# Altium schematic symbol library kmilo17pet-NSC_Switcher.SchLib: 2226 symbols (part 46 of 59)
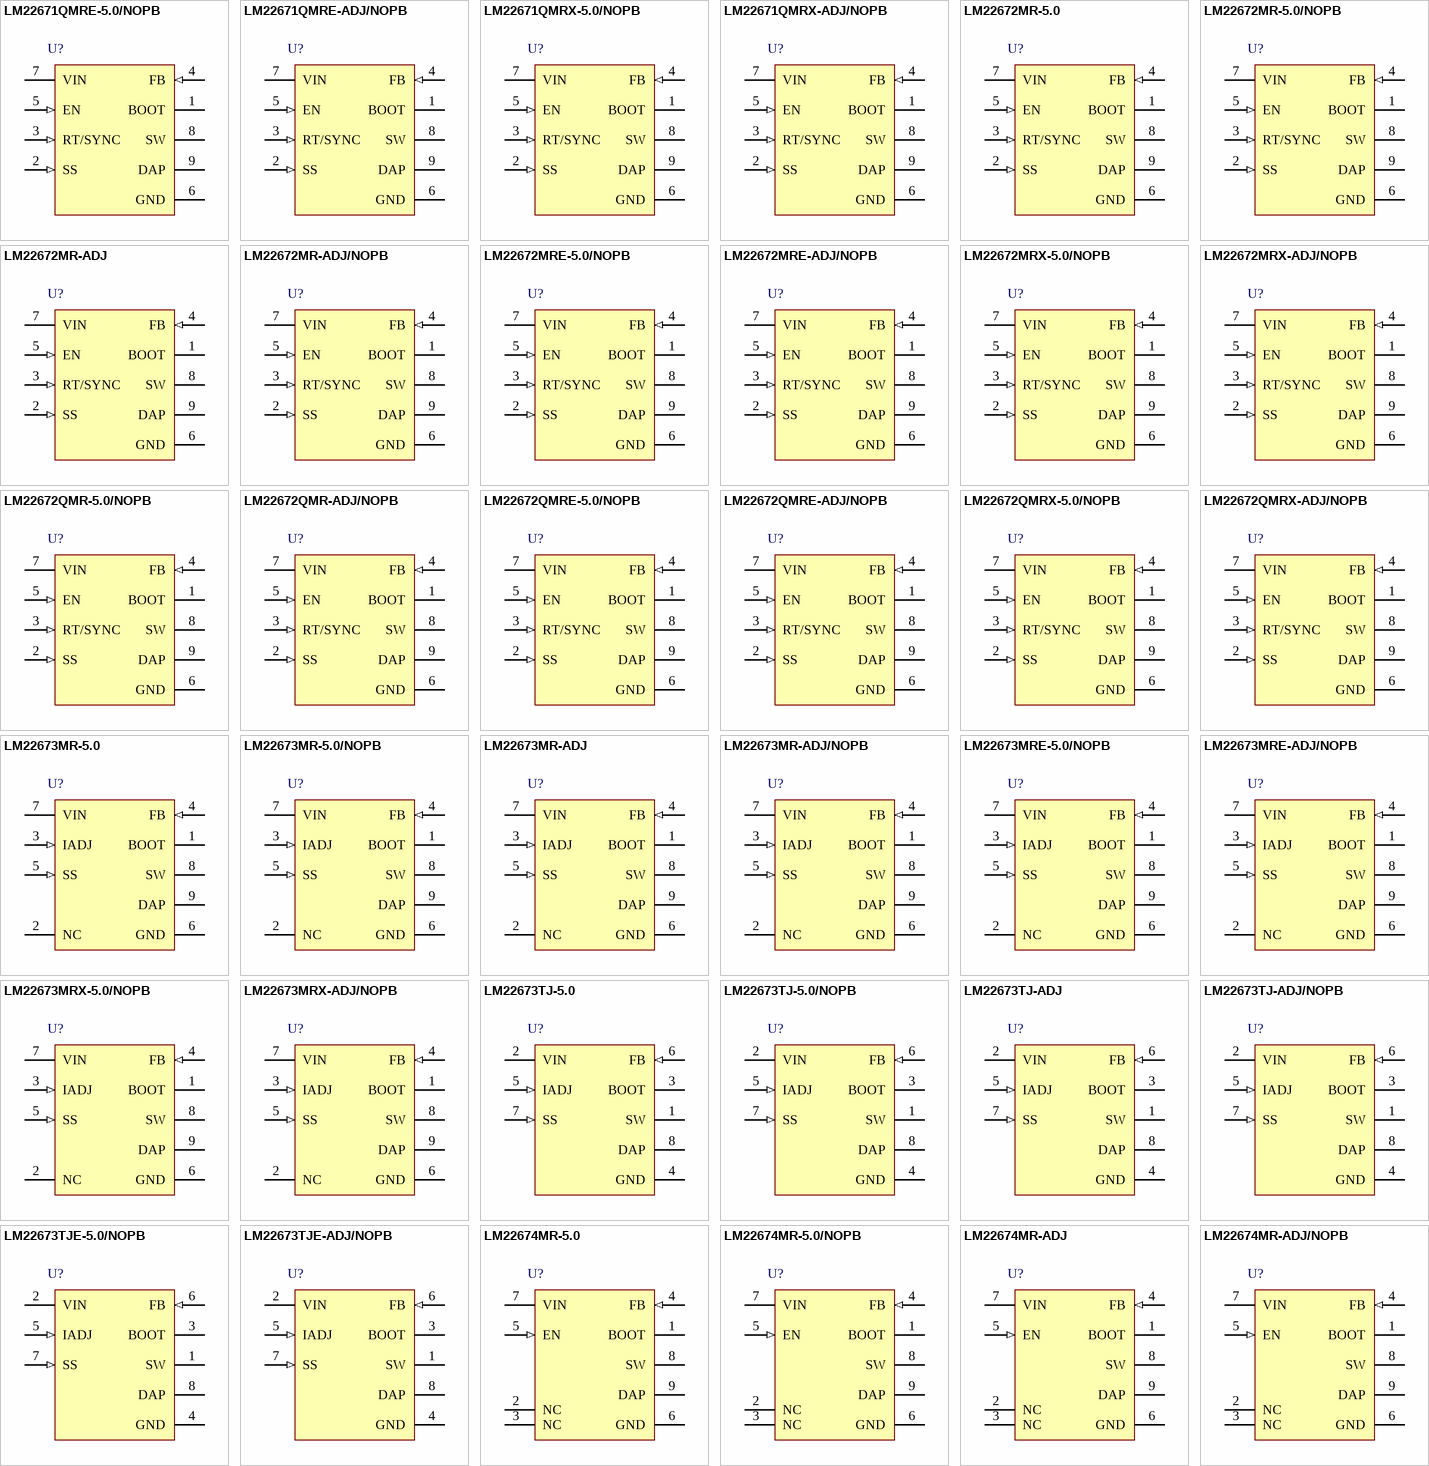
[diagram p114: symbols LM22671QMRE-5.0/NOPB to LM22674MR-ADJ/NOPB]

## LM22671QMRE-ADJ/NOPB
designator U?
500 mA SIMPLE SWITCHER®, Step-Down Voltage Regulator with Features, Adjustable Output, Automotive Grade 1, 8-pin PSOP, 250 Reel; PartNumber: LM22671QMRE-ADJ/NOPB; Manufacturer: National Semiconductor; PackageTopMarking: NSXYTT*L22671*QADJ; PowerWise: N; High-Reliability: Y; DatasheetVersion: Jan-2011; PackageVersion: revB, Dec-2007; PackageReference: MRA08B; PackageDescription: Molded, PSOP .193 x .154 x .058in, 8 Lead, .050in Pitch, Large DAP; RoHS: Y; PinCount: 8; CompType: Switcher; Code_JEDEC: MS-012-AA; ComponentLink1Description: Manufacturer URL; ComponentLink1URL: http://www.national.com/; ComponentLink2Description: LM22671 Datasheet; ComponentLink2URL: http://www.national.com/ds/LM/LM22671.pdf; ComponentLink3Description: LM22671 Web Page; ComponentLink3URL: http://www.national.com/pf/LM/LM22671.html; ComponentLink4Description: MRA08B Package Page; ComponentLink4URL: http://www.national.com/packaging/folders/mra08b.html
footprint MRA08B_N (SOIC, 8-Leads, Body 4.9x3.9mm, Pitch 1.27mm, Thermal Pad, IPC Medium Density)
footprint MRA08B_L (SOIC, 8-Leads, Body 4.9x3.9mm, Pitch 1.27mm, Thermal Pad, IPC High Density)
footprint MRA08B_M (SOIC, 8-Leads, Body 4.9x3.9mm, Pitch 1.27mm, Thermal Pad, IPC Low Density)
pins: 1 BOOT, 2 SS (in), 3 RT/SYNC (in), 4 FB (in), 5 EN (in), 6 GND (power), 7 VIN (power), 8 SW (power), 9 DAP (power)

## LM22671QMRX-5.0/NOPB
designator U?
500 mA SIMPLE SWITCHER®, Step-Down Voltage Regulator with Features, 5V Output, Automotive Grade 1, 8-pin PSOP, 2500 Reel; PartNumber: LM22671QMRX-5.0/NOPB; Manufacturer: National Semiconductor; PackageTopMarking: NSXYTT*L22671*Q5.0; PowerWise: N; High-Reliability: Y; DatasheetVersion: Jan-2011; PackageVersion: revB, Dec-2007; PackageReference: MRA08B; PackageDescription: Molded, PSOP .193 x .154 x .058in, 8 Lead, .050in Pitch, Large DAP; RoHS: Y; PinCount: 8; CompType: Switcher; Code_JEDEC: MS-012-AA; ComponentLink1Description: Manufacturer URL; ComponentLink1URL: http://www.national.com/; ComponentLink2Description: LM22671 Datasheet; ComponentLink2URL: http://www.national.com/ds/LM/LM22671.pdf; ComponentLink3Description: LM22671 Web Page; ComponentLink3URL: http://www.national.com/pf/LM/LM22671.html; ComponentLink4Description: MRA08B Package Page; ComponentLink4URL: http://www.national.com/packaging/folders/mra08b.html
footprint MRA08B_N (SOIC, 8-Leads, Body 4.9x3.9mm, Pitch 1.27mm, Thermal Pad, IPC Medium Density)
footprint MRA08B_L (SOIC, 8-Leads, Body 4.9x3.9mm, Pitch 1.27mm, Thermal Pad, IPC High Density)
footprint MRA08B_M (SOIC, 8-Leads, Body 4.9x3.9mm, Pitch 1.27mm, Thermal Pad, IPC Low Density)
pins: 1 BOOT, 2 SS (in), 3 RT/SYNC (in), 4 FB (in), 5 EN (in), 6 GND (power), 7 VIN (power), 8 SW (power), 9 DAP (power)

## LM22671QMRX-ADJ/NOPB
designator U?
500 mA SIMPLE SWITCHER®, Step-Down Voltage Regulator with Features, Adjustable Output, Automotive Grade 1, 8-pin PSOP, 2500 Reel; PartNumber: LM22671QMRX-ADJ/NOPB; Manufacturer: National Semiconductor; PackageTopMarking: NSXYTT*L22671*QADJ; PowerWise: N; High-Reliability: Y; DatasheetVersion: Jan-2011; PackageVersion: revB, Dec-2007; PackageReference: MRA08B; PackageDescription: Molded, PSOP .193 x .154 x .058in, 8 Lead, .050in Pitch, Large DAP; RoHS: Y; PinCount: 8; CompType: Switcher; Code_JEDEC: MS-012-AA; ComponentLink1Description: Manufacturer URL; ComponentLink1URL: http://www.national.com/; ComponentLink2Description: LM22671 Datasheet; ComponentLink2URL: http://www.national.com/ds/LM/LM22671.pdf; ComponentLink3Description: LM22671 Web Page; ComponentLink3URL: http://www.national.com/pf/LM/LM22671.html; ComponentLink4Description: MRA08B Package Page; ComponentLink4URL: http://www.national.com/packaging/folders/mra08b.html
footprint MRA08B_N (SOIC, 8-Leads, Body 4.9x3.9mm, Pitch 1.27mm, Thermal Pad, IPC Medium Density)
footprint MRA08B_L (SOIC, 8-Leads, Body 4.9x3.9mm, Pitch 1.27mm, Thermal Pad, IPC High Density)
footprint MRA08B_M (SOIC, 8-Leads, Body 4.9x3.9mm, Pitch 1.27mm, Thermal Pad, IPC Low Density)
pins: 1 BOOT, 2 SS (in), 3 RT/SYNC (in), 4 FB (in), 5 EN (in), 6 GND (power), 7 VIN (power), 8 SW (power), 9 DAP (power)

## LM22672MR-5.0
designator U?
1A SIMPLE SWITCHER® Step-Down Voltage Regulator with Features, 8-pin PSOP; PartNumber: LM22672MR-5.0; Manufacturer: National Semiconductor; PackageTopMarking: NSXYTT*L22672*5.0; PowerWise: N; High-Reliability: Y; DatasheetVersion: Jan-2011; PackageVersion: revB, Dec-2007; PackageReference: MRA08B; PackageDescription: Molded, PSOP .193 x .154 x .058in, 8 Lead, .050in Pitch, Large DAP; RoHS: Y; PinCount: 8; CompType: Switcher; Code_JEDEC: MS-012-AA; ComponentLink1Description: Manufacturer URL; ComponentLink1URL: http://www.national.com/; ComponentLink2Description: LM22672 Datasheet; ComponentLink2URL: http://www.national.com/ds/LM/LM22672.pdf; ComponentLink3Description: LM22672 Web Page; ComponentLink3URL: http://www.national.com/pf/LM/LM22672.html; ComponentLink4Description: MRA08B Package Page; ComponentLink4URL: http://www.national.com/packaging/folders/mra08b.html
footprint MRA08B_N (SOIC, 8-Leads, Body 4.9x3.9mm, Pitch 1.27mm, Thermal Pad, IPC Medium Density)
footprint MRA08B_L (SOIC, 8-Leads, Body 4.9x3.9mm, Pitch 1.27mm, Thermal Pad, IPC High Density)
footprint MRA08B_M (SOIC, 8-Leads, Body 4.9x3.9mm, Pitch 1.27mm, Thermal Pad, IPC Low Density)
pins: 1 BOOT, 2 SS (in), 3 RT/SYNC (in), 4 FB (in), 5 EN (in), 6 GND (power), 7 VIN (power), 8 SW (power), 9 DAP (power)

## LM22672MR-5.0/NOPB
designator U?
1A SIMPLE SWITCHER®, Step-Down Voltage Regulator with Features, 8-pin PSOP, Pb-Free; PartNumber: LM22672MR-5.0/NOPB; Manufacturer: National Semiconductor; PackageTopMarking: NSXYTT*L22672*5.0; PowerWise: N; High-Reliability: Y; DatasheetVersion: Jan-2011; PackageVersion: revB, Dec-2007; PackageReference: MRA08B; PackageDescription: Molded, PSOP .193 x .154 x .058in, 8 Lead, .050in Pitch, Large DAP; RoHS: Y; PinCount: 8; CompType: Switcher; Code_JEDEC: MS-012-AA; ComponentLink1Description: Manufacturer URL; ComponentLink1URL: http://www.national.com/; ComponentLink2Description: LM22672 Datasheet; ComponentLink2URL: http://www.national.com/ds/LM/LM22672.pdf; ComponentLink3Description: LM22672 Web Page; ComponentLink3URL: http://www.national.com/pf/LM/LM22672.html; ComponentLink4Description: MRA08B Package Page; ComponentLink4URL: http://www.national.com/packaging/folders/mra08b.html
footprint MRA08B_N (SOIC, 8-Leads, Body 4.9x3.9mm, Pitch 1.27mm, Thermal Pad, IPC Medium Density)
footprint MRA08B_L (SOIC, 8-Leads, Body 4.9x3.9mm, Pitch 1.27mm, Thermal Pad, IPC High Density)
footprint MRA08B_M (SOIC, 8-Leads, Body 4.9x3.9mm, Pitch 1.27mm, Thermal Pad, IPC Low Density)
pins: 1 BOOT, 2 SS (in), 3 RT/SYNC (in), 4 FB (in), 5 EN (in), 6 GND (power), 7 VIN (power), 8 SW (power), 9 DAP (power)

## LM22672MR-ADJ
designator U?
1A SIMPLE SWITCHER® Step-Down Voltage Regulator with Features, 8-pin PSOP; PartNumber: LM22672MR-ADJ; Manufacturer: National Semiconductor; PackageTopMarking: NSXYTT*L22672*ADJ; PowerWise: N; High-Reliability: Y; DatasheetVersion: Jan-2011; PackageVersion: revB, Dec-2007; PackageReference: MRA08B; PackageDescription: Molded, PSOP .193 x .154 x .058in, 8 Lead, .050in Pitch, Large DAP; RoHS: Y; PinCount: 8; CompType: Switcher; Code_JEDEC: MS-012-AA; ComponentLink1Description: Manufacturer URL; ComponentLink1URL: http://www.national.com/; ComponentLink2Description: LM22672 Datasheet; ComponentLink2URL: http://www.national.com/ds/LM/LM22672.pdf; ComponentLink3Description: LM22672 Web Page; ComponentLink3URL: http://www.national.com/pf/LM/LM22672.html; ComponentLink4Description: MRA08B Package Page; ComponentLink4URL: http://www.national.com/packaging/folders/mra08b.html
footprint MRA08B_N (SOIC, 8-Leads, Body 4.9x3.9mm, Pitch 1.27mm, Thermal Pad, IPC Medium Density)
footprint MRA08B_L (SOIC, 8-Leads, Body 4.9x3.9mm, Pitch 1.27mm, Thermal Pad, IPC High Density)
footprint MRA08B_M (SOIC, 8-Leads, Body 4.9x3.9mm, Pitch 1.27mm, Thermal Pad, IPC Low Density)
pins: 1 BOOT, 2 SS (in), 3 RT/SYNC (in), 4 FB (in), 5 EN (in), 6 GND (power), 7 VIN (power), 8 SW (power), 9 DAP (power)

## LM22672MR-ADJ/NOPB
designator U?
1A SIMPLE SWITCHER®, Step-Down Voltage Regulator with Features, 8-pin PSOP, Pb-Free; PartNumber: LM22672MR-ADJ/NOPB; Manufacturer: National Semiconductor; PackageTopMarking: NSXYTT*L22672*ADJ; PowerWise: N; High-Reliability: Y; DatasheetVersion: Jan-2011; PackageVersion: revB, Dec-2007; PackageReference: MRA08B; PackageDescription: Molded, PSOP .193 x .154 x .058in, 8 Lead, .050in Pitch, Large DAP; RoHS: Y; PinCount: 8; CompType: Switcher; Code_JEDEC: MS-012-AA; ComponentLink1Description: Manufacturer URL; ComponentLink1URL: http://www.national.com/; ComponentLink2Description: LM22672 Datasheet; ComponentLink2URL: http://www.national.com/ds/LM/LM22672.pdf; ComponentLink3Description: LM22672 Web Page; ComponentLink3URL: http://www.national.com/pf/LM/LM22672.html; ComponentLink4Description: MRA08B Package Page; ComponentLink4URL: http://www.national.com/packaging/folders/mra08b.html
footprint MRA08B_N (SOIC, 8-Leads, Body 4.9x3.9mm, Pitch 1.27mm, Thermal Pad, IPC Medium Density)
footprint MRA08B_L (SOIC, 8-Leads, Body 4.9x3.9mm, Pitch 1.27mm, Thermal Pad, IPC High Density)
footprint MRA08B_M (SOIC, 8-Leads, Body 4.9x3.9mm, Pitch 1.27mm, Thermal Pad, IPC Low Density)
pins: 1 BOOT, 2 SS (in), 3 RT/SYNC (in), 4 FB (in), 5 EN (in), 6 GND (power), 7 VIN (power), 8 SW (power), 9 DAP (power)

## LM22672MRE-5.0/NOPB
designator U?
1A SIMPLE SWITCHER®, Step-Down Voltage Regulator with Features, 8-pin PSOP, Pb-Free; PartNumber: LM22672MRE-5.0/NOPB; Manufacturer: National Semiconductor; PackageTopMarking: NSXYTT*L22672*5.0; PowerWise: N; High-Reliability: Y; DatasheetVersion: Jan-2011; PackageVersion: revB, Dec-2007; PackageReference: MRA08B; PackageDescription: Molded, PSOP .193 x .154 x .058in, 8 Lead, .050in Pitch, Large DAP; RoHS: Y; PinCount: 8; CompType: Switcher; Code_JEDEC: MS-012-AA; ComponentLink1Description: Manufacturer URL; ComponentLink1URL: http://www.national.com/; ComponentLink2Description: LM22672 Datasheet; ComponentLink2URL: http://www.national.com/ds/LM/LM22672.pdf; ComponentLink3Description: LM22672 Web Page; ComponentLink3URL: http://www.national.com/pf/LM/LM22672.html; ComponentLink4Description: MRA08B Package Page; ComponentLink4URL: http://www.national.com/packaging/folders/mra08b.html
footprint MRA08B_N (SOIC, 8-Leads, Body 4.9x3.9mm, Pitch 1.27mm, Thermal Pad, IPC Medium Density)
footprint MRA08B_L (SOIC, 8-Leads, Body 4.9x3.9mm, Pitch 1.27mm, Thermal Pad, IPC High Density)
footprint MRA08B_M (SOIC, 8-Leads, Body 4.9x3.9mm, Pitch 1.27mm, Thermal Pad, IPC Low Density)
pins: 1 BOOT, 2 SS (in), 3 RT/SYNC (in), 4 FB (in), 5 EN (in), 6 GND (power), 7 VIN (power), 8 SW (power), 9 DAP (power)

## LM22672MRE-ADJ/NOPB
designator U?
1A SIMPLE SWITCHER®, Step-Down Voltage Regulator with Features, 8-pin PSOP, Pb-Free; PartNumber: LM22672MRE-ADJ/NOPB; Manufacturer: National Semiconductor; PackageTopMarking: NSXYTT*L22672*ADJ; PowerWise: N; High-Reliability: Y; DatasheetVersion: Jan-2011; PackageVersion: revB, Dec-2007; PackageReference: MRA08B; PackageDescription: Molded, PSOP .193 x .154 x .058in, 8 Lead, .050in Pitch, Large DAP; RoHS: Y; PinCount: 8; CompType: Switcher; Code_JEDEC: MS-012-AA; ComponentLink1Description: Manufacturer URL; ComponentLink1URL: http://www.national.com/; ComponentLink2Description: LM22672 Datasheet; ComponentLink2URL: http://www.national.com/ds/LM/LM22672.pdf; ComponentLink3Description: LM22672 Web Page; ComponentLink3URL: http://www.national.com/pf/LM/LM22672.html; ComponentLink4Description: MRA08B Package Page; ComponentLink4URL: http://www.national.com/packaging/folders/mra08b.html
footprint MRA08B_N (SOIC, 8-Leads, Body 4.9x3.9mm, Pitch 1.27mm, Thermal Pad, IPC Medium Density)
footprint MRA08B_L (SOIC, 8-Leads, Body 4.9x3.9mm, Pitch 1.27mm, Thermal Pad, IPC High Density)
footprint MRA08B_M (SOIC, 8-Leads, Body 4.9x3.9mm, Pitch 1.27mm, Thermal Pad, IPC Low Density)
pins: 1 BOOT, 2 SS (in), 3 RT/SYNC (in), 4 FB (in), 5 EN (in), 6 GND (power), 7 VIN (power), 8 SW (power), 9 DAP (power)

## LM22672MRX-5.0/NOPB
designator U?
1A SIMPLE SWITCHER®, Step-Down Voltage Regulator with Features, 8-pin PSOP, Pb-Free; PartNumber: LM22672MRX-5.0/NOPB; Manufacturer: National Semiconductor; PackageTopMarking: NSXYTT*L22672*5.0; PowerWise: N; High-Reliability: Y; DatasheetVersion: Jan-2011; PackageVersion: revB, Dec-2007; PackageReference: MRA08B; PackageDescription: Molded, PSOP .193 x .154 x .058in, 8 Lead, .050in Pitch, Large DAP; RoHS: Y; PinCount: 8; CompType: Switcher; Code_JEDEC: MS-012-AA; ComponentLink1Description: Manufacturer URL; ComponentLink1URL: http://www.national.com/; ComponentLink2Description: LM22672 Datasheet; ComponentLink2URL: http://www.national.com/ds/LM/LM22672.pdf; ComponentLink3Description: LM22672 Web Page; ComponentLink3URL: http://www.national.com/pf/LM/LM22672.html; ComponentLink4Description: MRA08B Package Page; ComponentLink4URL: http://www.national.com/packaging/folders/mra08b.html
footprint MRA08B_N (SOIC, 8-Leads, Body 4.9x3.9mm, Pitch 1.27mm, Thermal Pad, IPC Medium Density)
footprint MRA08B_L (SOIC, 8-Leads, Body 4.9x3.9mm, Pitch 1.27mm, Thermal Pad, IPC High Density)
footprint MRA08B_M (SOIC, 8-Leads, Body 4.9x3.9mm, Pitch 1.27mm, Thermal Pad, IPC Low Density)
pins: 1 BOOT, 2 SS (in), 3 RT/SYNC (in), 4 FB (in), 5 EN (in), 6 GND (power), 7 VIN (power), 8 SW (power), 9 DAP (power)

## LM22672MRX-ADJ/NOPB
designator U?
1A SIMPLE SWITCHER®, Step-Down Voltage Regulator with Features, 8-pin PSOP, Pb-Free; PartNumber: LM22672MRX-ADJ/NOPB; Manufacturer: National Semiconductor; PackageTopMarking: NSXYTT*L22672*ADJ; PowerWise: N; High-Reliability: Y; DatasheetVersion: Jan-2011; PackageVersion: revB, Dec-2007; PackageReference: MRA08B; PackageDescription: Molded, PSOP .193 x .154 x .058in, 8 Lead, .050in Pitch, Large DAP; RoHS: Y; PinCount: 8; CompType: Switcher; Code_JEDEC: MS-012-AA; ComponentLink1Description: Manufacturer URL; ComponentLink1URL: http://www.national.com/; ComponentLink2Description: LM22672 Datasheet; ComponentLink2URL: http://www.national.com/ds/LM/LM22672.pdf; ComponentLink3Description: LM22672 Web Page; ComponentLink3URL: http://www.national.com/pf/LM/LM22672.html; ComponentLink4Description: MRA08B Package Page; ComponentLink4URL: http://www.national.com/packaging/folders/mra08b.html
footprint MRA08B_N (SOIC, 8-Leads, Body 4.9x3.9mm, Pitch 1.27mm, Thermal Pad, IPC Medium Density)
footprint MRA08B_L (SOIC, 8-Leads, Body 4.9x3.9mm, Pitch 1.27mm, Thermal Pad, IPC High Density)
footprint MRA08B_M (SOIC, 8-Leads, Body 4.9x3.9mm, Pitch 1.27mm, Thermal Pad, IPC Low Density)
pins: 1 BOOT, 2 SS (in), 3 RT/SYNC (in), 4 FB (in), 5 EN (in), 6 GND (power), 7 VIN (power), 8 SW (power), 9 DAP (power)

## LM22672QMR-5.0/NOPB
designator U?
1A SIMPLE SWITCHER®, Step-Down Voltage Regulator with Features, 5V Output, Automotive Grade 1, 8-pin PSOP, 95 Rail; PartNumber: LM22672QMR-5.0/NOPB; Manufacturer: National Semiconductor; PackageTopMarking: NSXYTT*L22672*Q5.0; PowerWise: N; High-Reliability: Y; DatasheetVersion: Jan-2011; PackageVersion: revB, Dec-2007; PackageReference: MRA08B; PackageDescription: Molded, PSOP .193 x .154 x .058in, 8 Lead, .050in Pitch, Large DAP; RoHS: Y; PinCount: 8; CompType: Switcher; Code_JEDEC: MS-012-AA; ComponentLink1Description: Manufacturer URL; ComponentLink1URL: http://www.national.com/; ComponentLink2Description: LM22672 Datasheet; ComponentLink2URL: http://www.national.com/ds/LM/LM22672.pdf; ComponentLink3Description: LM22672 Web Page; ComponentLink3URL: http://www.national.com/pf/LM/LM22672.html; ComponentLink4Description: MRA08B Package Page; ComponentLink4URL: http://www.national.com/packaging/folders/mra08b.html
footprint MRA08B_N (SOIC, 8-Leads, Body 4.9x3.9mm, Pitch 1.27mm, Thermal Pad, IPC Medium Density)
footprint MRA08B_L (SOIC, 8-Leads, Body 4.9x3.9mm, Pitch 1.27mm, Thermal Pad, IPC High Density)
footprint MRA08B_M (SOIC, 8-Leads, Body 4.9x3.9mm, Pitch 1.27mm, Thermal Pad, IPC Low Density)
pins: 1 BOOT, 2 SS (in), 3 RT/SYNC (in), 4 FB (in), 5 EN (in), 6 GND (power), 7 VIN (power), 8 SW (power), 9 DAP (power)

## LM22672QMR-ADJ/NOPB
designator U?
1A SIMPLE SWITCHER®, Step-Down Voltage Regulator with Features, Adjustable Output, Automotive Grade 1, 8-pin PSOP, 95 Rail; PartNumber: LM22672QMR-ADJ/NOPB; Manufacturer: National Semiconductor; PackageTopMarking: NSXYTT*L22672*QADJ; PowerWise: N; High-Reliability: Y; DatasheetVersion: Jan-2011; PackageVersion: revB, Dec-2007; PackageReference: MRA08B; PackageDescription: Molded, PSOP .193 x .154 x .058in, 8 Lead, .050in Pitch, Large DAP; RoHS: Y; PinCount: 8; CompType: Switcher; Code_JEDEC: MS-012-AA; ComponentLink1Description: Manufacturer URL; ComponentLink1URL: http://www.national.com/; ComponentLink2Description: LM22672 Datasheet; ComponentLink2URL: http://www.national.com/ds/LM/LM22672.pdf; ComponentLink3Description: LM22672 Web Page; ComponentLink3URL: http://www.national.com/pf/LM/LM22672.html; ComponentLink4Description: MRA08B Package Page; ComponentLink4URL: http://www.national.com/packaging/folders/mra08b.html
footprint MRA08B_N (SOIC, 8-Leads, Body 4.9x3.9mm, Pitch 1.27mm, Thermal Pad, IPC Medium Density)
footprint MRA08B_L (SOIC, 8-Leads, Body 4.9x3.9mm, Pitch 1.27mm, Thermal Pad, IPC High Density)
footprint MRA08B_M (SOIC, 8-Leads, Body 4.9x3.9mm, Pitch 1.27mm, Thermal Pad, IPC Low Density)
pins: 1 BOOT, 2 SS (in), 3 RT/SYNC (in), 4 FB (in), 5 EN (in), 6 GND (power), 7 VIN (power), 8 SW (power), 9 DAP (power)

## LM22672QMRE-5.0/NOPB
designator U?
1A SIMPLE SWITCHER®, Step-Down Voltage Regulator with Features, 5V Output, Automotive Grade 1, 8-pin PSOP, 250 Reel; PartNumber: LM22672QMRE-5.0/NOPB; Manufacturer: National Semiconductor; PackageTopMarking: NSXYTT*L22672*Q5.0; PowerWise: N; High-Reliability: Y; DatasheetVersion: Jan-2011; PackageVersion: revB, Dec-2007; PackageReference: MRA08B; PackageDescription: Molded, PSOP .193 x .154 x .058in, 8 Lead, .050in Pitch, Large DAP; RoHS: Y; PinCount: 8; CompType: Switcher; Code_JEDEC: MS-012-AA; ComponentLink1Description: Manufacturer URL; ComponentLink1URL: http://www.national.com/; ComponentLink2Description: LM22672 Datasheet; ComponentLink2URL: http://www.national.com/ds/LM/LM22672.pdf; ComponentLink3Description: LM22672 Web Page; ComponentLink3URL: http://www.national.com/pf/LM/LM22672.html; ComponentLink4Description: MRA08B Package Page; ComponentLink4URL: http://www.national.com/packaging/folders/mra08b.html
footprint MRA08B_N (SOIC, 8-Leads, Body 4.9x3.9mm, Pitch 1.27mm, Thermal Pad, IPC Medium Density)
footprint MRA08B_L (SOIC, 8-Leads, Body 4.9x3.9mm, Pitch 1.27mm, Thermal Pad, IPC High Density)
footprint MRA08B_M (SOIC, 8-Leads, Body 4.9x3.9mm, Pitch 1.27mm, Thermal Pad, IPC Low Density)
pins: 1 BOOT, 2 SS (in), 3 RT/SYNC (in), 4 FB (in), 5 EN (in), 6 GND (power), 7 VIN (power), 8 SW (power), 9 DAP (power)

## LM22672QMRE-ADJ/NOPB
designator U?
1A SIMPLE SWITCHER®, Step-Down Voltage Regulator with Features, Adjustable Output, Automotive Grade 1, 8-pin PSOP, 250 Reel; PartNumber: LM22672QMRE-ADJ/NOPB; Manufacturer: National Semiconductor; PackageTopMarking: NSXYTT*L22672*QADJ; PowerWise: N; High-Reliability: Y; DatasheetVersion: Jan-2011; PackageVersion: revB, Dec-2007; PackageReference: MRA08B; PackageDescription: Molded, PSOP .193 x .154 x .058in, 8 Lead, .050in Pitch, Large DAP; RoHS: Y; PinCount: 8; CompType: Switcher; Code_JEDEC: MS-012-AA; ComponentLink1Description: Manufacturer URL; ComponentLink1URL: http://www.national.com/; ComponentLink2Description: LM22672 Datasheet; ComponentLink2URL: http://www.national.com/ds/LM/LM22672.pdf; ComponentLink3Description: LM22672 Web Page; ComponentLink3URL: http://www.national.com/pf/LM/LM22672.html; ComponentLink4Description: MRA08B Package Page; ComponentLink4URL: http://www.national.com/packaging/folders/mra08b.html
footprint MRA08B_N (SOIC, 8-Leads, Body 4.9x3.9mm, Pitch 1.27mm, Thermal Pad, IPC Medium Density)
footprint MRA08B_L (SOIC, 8-Leads, Body 4.9x3.9mm, Pitch 1.27mm, Thermal Pad, IPC High Density)
footprint MRA08B_M (SOIC, 8-Leads, Body 4.9x3.9mm, Pitch 1.27mm, Thermal Pad, IPC Low Density)
pins: 1 BOOT, 2 SS (in), 3 RT/SYNC (in), 4 FB (in), 5 EN (in), 6 GND (power), 7 VIN (power), 8 SW (power), 9 DAP (power)

## LM22672QMRX-5.0/NOPB
designator U?
1A SIMPLE SWITCHER®, Step-Down Voltage Regulator with Features, 5V Output, Automotive Grade 1, 8-pin PSOP, 2500 Reel; PartNumber: LM22672QMRX-5.0/NOPB; Manufacturer: National Semiconductor; PackageTopMarking: NSXYTT*L22672*Q5.0; PowerWise: N; High-Reliability: Y; DatasheetVersion: Jan-2011; PackageVersion: revB, Dec-2007; PackageReference: MRA08B; PackageDescription: Molded, PSOP .193 x .154 x .058in, 8 Lead, .050in Pitch, Large DAP; RoHS: Y; PinCount: 8; CompType: Switcher; Code_JEDEC: MS-012-AA; ComponentLink1Description: Manufacturer URL; ComponentLink1URL: http://www.national.com/; ComponentLink2Description: LM22672 Datasheet; ComponentLink2URL: http://www.national.com/ds/LM/LM22672.pdf; ComponentLink3Description: LM22672 Web Page; ComponentLink3URL: http://www.national.com/pf/LM/LM22672.html; ComponentLink4Description: MRA08B Package Page; ComponentLink4URL: http://www.national.com/packaging/folders/mra08b.html
footprint MRA08B_N (SOIC, 8-Leads, Body 4.9x3.9mm, Pitch 1.27mm, Thermal Pad, IPC Medium Density)
footprint MRA08B_L (SOIC, 8-Leads, Body 4.9x3.9mm, Pitch 1.27mm, Thermal Pad, IPC High Density)
footprint MRA08B_M (SOIC, 8-Leads, Body 4.9x3.9mm, Pitch 1.27mm, Thermal Pad, IPC Low Density)
pins: 1 BOOT, 2 SS (in), 3 RT/SYNC (in), 4 FB (in), 5 EN (in), 6 GND (power), 7 VIN (power), 8 SW (power), 9 DAP (power)

## LM22672QMRX-ADJ/NOPB
designator U?
1A SIMPLE SWITCHER®, Step-Down Voltage Regulator with Features, Adjustable Output, Automotive Grade 1, 8-pin PSOP, 2500 Reel; PartNumber: LM22672QMRX-ADJ/NOPB; Manufacturer: National Semiconductor; PackageTopMarking: NSXYTT*L22672*QADJ; PowerWise: N; High-Reliability: Y; DatasheetVersion: Jan-2011; PackageVersion: revB, Dec-2007; PackageReference: MRA08B; PackageDescription: Molded, PSOP .193 x .154 x .058in, 8 Lead, .050in Pitch, Large DAP; RoHS: Y; PinCount: 8; CompType: Switcher; Code_JEDEC: MS-012-AA; ComponentLink1Description: Manufacturer URL; ComponentLink1URL: http://www.national.com/; ComponentLink2Description: LM22672 Datasheet; ComponentLink2URL: http://www.national.com/ds/LM/LM22672.pdf; ComponentLink3Description: LM22672 Web Page; ComponentLink3URL: http://www.national.com/pf/LM/LM22672.html; ComponentLink4Description: MRA08B Package Page; ComponentLink4URL: http://www.national.com/packaging/folders/mra08b.html
footprint MRA08B_N (SOIC, 8-Leads, Body 4.9x3.9mm, Pitch 1.27mm, Thermal Pad, IPC Medium Density)
footprint MRA08B_L (SOIC, 8-Leads, Body 4.9x3.9mm, Pitch 1.27mm, Thermal Pad, IPC High Density)
footprint MRA08B_M (SOIC, 8-Leads, Body 4.9x3.9mm, Pitch 1.27mm, Thermal Pad, IPC Low Density)
pins: 1 BOOT, 2 SS (in), 3 RT/SYNC (in), 4 FB (in), 5 EN (in), 6 GND (power), 7 VIN (power), 8 SW (power), 9 DAP (power)

## LM22673MR-5.0
designator U?
3A SIMPLE SWITCHER® Step-Down Voltage Regulator with Adjustable Soft-Start and Current Limit, 8-pin PSOP; PartNumber: LM22673MR-5.0; Manufacturer: National Semiconductor; PackageTopMarking: NSXYTT*L22673*5.0; PowerWise: N; High-Reliability: Y; DatasheetVersion: Nov-2008; PackageVersion: revB, Dec-2007; PackageReference: MRA08B; PackageDescription: Molded, PSOP .193 x .154 x .058in, 8 Lead, .050in Pitch, Large DAP; RoHS: Y; PinCount: 8; CompType: Switcher; Code_JEDEC: MS-012-AA; ComponentLink1Description: Manufacturer URL; ComponentLink1URL: http://www.national.com/; ComponentLink2Description: LM22673 Datasheet; ComponentLink2URL: http://www.national.com/ds/LM/LM22673.pdf; ComponentLink3Description: LM22673 Web Page; ComponentLink3URL: http://www.national.com/pf/LM/LM22673.html; ComponentLink4Description: MRA08B Package Page; ComponentLink4URL: http://www.national.com/packaging/folders/mra08b.html
footprint MRA08B_N (SOIC, 8-Leads, Body 4.9x3.9mm, Pitch 1.27mm, Thermal Pad, IPC Medium Density)
footprint MRA08B_L (SOIC, 8-Leads, Body 4.9x3.9mm, Pitch 1.27mm, Thermal Pad, IPC High Density)
footprint MRA08B_M (SOIC, 8-Leads, Body 4.9x3.9mm, Pitch 1.27mm, Thermal Pad, IPC Low Density)
pins: 1 BOOT, 2 NC, 3 IADJ (in), 4 FB (in), 5 SS (in), 6 GND (power), 7 VIN (power), 8 SW (power), 9 DAP (power)

## LM22673MR-5.0/NOPB
designator U?
3A SIMPLE SWITCHER®, Step-Down Voltage Regulator with Adjustable Soft-Start and Current Limit, 8-pin PSOP, Pb-Free; PartNumber: LM22673MR-5.0/NOPB; Manufacturer: National Semiconductor; PackageTopMarking: NSXYTT*L22673*5.0; PowerWise: N; High-Reliability: Y; DatasheetVersion: Nov-2008; PackageVersion: revB, Dec-2007; PackageReference: MRA08B; PackageDescription: Molded, PSOP .193 x .154 x .058in, 8 Lead, .050in Pitch, Large DAP; RoHS: Y; PinCount: 8; CompType: Switcher; Code_JEDEC: MS-012-AA; ComponentLink1Description: Manufacturer URL; ComponentLink1URL: http://www.national.com/; ComponentLink2Description: LM22673 Datasheet; ComponentLink2URL: http://www.national.com/ds/LM/LM22673.pdf; ComponentLink3Description: LM22673 Web Page; ComponentLink3URL: http://www.national.com/pf/LM/LM22673.html; ComponentLink4Description: MRA08B Package Page; ComponentLink4URL: http://www.national.com/packaging/folders/mra08b.html
footprint MRA08B_N (SOIC, 8-Leads, Body 4.9x3.9mm, Pitch 1.27mm, Thermal Pad, IPC Medium Density)
footprint MRA08B_L (SOIC, 8-Leads, Body 4.9x3.9mm, Pitch 1.27mm, Thermal Pad, IPC High Density)
footprint MRA08B_M (SOIC, 8-Leads, Body 4.9x3.9mm, Pitch 1.27mm, Thermal Pad, IPC Low Density)
pins: 1 BOOT, 2 NC, 3 IADJ (in), 4 FB (in), 5 SS (in), 6 GND (power), 7 VIN (power), 8 SW (power), 9 DAP (power)

## LM22673MR-ADJ
designator U?
3A SIMPLE SWITCHER® Step-Down Voltage Regulator with Adjustable Soft-Start and Current Limit, 8-pin PSOP; PartNumber: LM22673MR-ADJ; Manufacturer: National Semiconductor; PackageTopMarking: NSXYTT*L22673*ADJ; PowerWise: N; High-Reliability: Y; DatasheetVersion: Nov-2008; PackageVersion: revB, Dec-2007; PackageReference: MRA08B; PackageDescription: Molded, PSOP .193 x .154 x .058in, 8 Lead, .050in Pitch, Large DAP; RoHS: Y; PinCount: 8; CompType: Switcher; Code_JEDEC: MS-012-AA; ComponentLink1Description: Manufacturer URL; ComponentLink1URL: http://www.national.com/; ComponentLink2Description: LM22673 Datasheet; ComponentLink2URL: http://www.national.com/ds/LM/LM22673.pdf; ComponentLink3Description: LM22673 Web Page; ComponentLink3URL: http://www.national.com/pf/LM/LM22673.html; ComponentLink4Description: MRA08B Package Page; ComponentLink4URL: http://www.national.com/packaging/folders/mra08b.html
footprint MRA08B_N (SOIC, 8-Leads, Body 4.9x3.9mm, Pitch 1.27mm, Thermal Pad, IPC Medium Density)
footprint MRA08B_L (SOIC, 8-Leads, Body 4.9x3.9mm, Pitch 1.27mm, Thermal Pad, IPC High Density)
footprint MRA08B_M (SOIC, 8-Leads, Body 4.9x3.9mm, Pitch 1.27mm, Thermal Pad, IPC Low Density)
pins: 1 BOOT, 2 NC, 3 IADJ (in), 4 FB (in), 5 SS (in), 6 GND (power), 7 VIN (power), 8 SW (power), 9 DAP (power)

## LM22673MR-ADJ/NOPB
designator U?
3A SIMPLE SWITCHER®, Step-Down Voltage Regulator with Adjustable Soft-Start and Current Limit, 8-pin PSOP, Pb-Free; PartNumber: LM22673MR-ADJ/NOPB; Manufacturer: National Semiconductor; PackageTopMarking: NSXYTT*L22673*ADJ; PowerWise: N; High-Reliability: Y; DatasheetVersion: Nov-2008; PackageVersion: revB, Dec-2007; PackageReference: MRA08B; PackageDescription: Molded, PSOP .193 x .154 x .058in, 8 Lead, .050in Pitch, Large DAP; RoHS: Y; PinCount: 8; CompType: Switcher; Code_JEDEC: MS-012-AA; ComponentLink1Description: Manufacturer URL; ComponentLink1URL: http://www.national.com/; ComponentLink2Description: LM22673 Datasheet; ComponentLink2URL: http://www.national.com/ds/LM/LM22673.pdf; ComponentLink3Description: LM22673 Web Page; ComponentLink3URL: http://www.national.com/pf/LM/LM22673.html; ComponentLink4Description: MRA08B Package Page; ComponentLink4URL: http://www.national.com/packaging/folders/mra08b.html
footprint MRA08B_N (SOIC, 8-Leads, Body 4.9x3.9mm, Pitch 1.27mm, Thermal Pad, IPC Medium Density)
footprint MRA08B_L (SOIC, 8-Leads, Body 4.9x3.9mm, Pitch 1.27mm, Thermal Pad, IPC High Density)
footprint MRA08B_M (SOIC, 8-Leads, Body 4.9x3.9mm, Pitch 1.27mm, Thermal Pad, IPC Low Density)
pins: 1 BOOT, 2 NC, 3 IADJ (in), 4 FB (in), 5 SS (in), 6 GND (power), 7 VIN (power), 8 SW (power), 9 DAP (power)

## LM22673MRE-5.0/NOPB
designator U?
3A SIMPLE SWITCHER®, Step-Down Voltage Regulator with Adjustable Soft-Start and Current Limit, 8-pin PSOP, Pb-Free; PartNumber: LM22673MRE-5.0/NOPB; Manufacturer: National Semiconductor; PackageTopMarking: NSXYTT*L22673*5.0; PowerWise: N; High-Reliability: Y; DatasheetVersion: Nov-2008; PackageVersion: revB, Dec-2007; PackageReference: MRA08B; PackageDescription: Molded, PSOP .193 x .154 x .058in, 8 Lead, .050in Pitch, Large DAP; RoHS: Y; PinCount: 8; CompType: Switcher; Code_JEDEC: MS-012-AA; ComponentLink1Description: Manufacturer URL; ComponentLink1URL: http://www.national.com/; ComponentLink2Description: LM22673 Datasheet; ComponentLink2URL: http://www.national.com/ds/LM/LM22673.pdf; ComponentLink3Description: LM22673 Web Page; ComponentLink3URL: http://www.national.com/pf/LM/LM22673.html; ComponentLink4Description: MRA08B Package Page; ComponentLink4URL: http://www.national.com/packaging/folders/mra08b.html
footprint MRA08B_N (SOIC, 8-Leads, Body 4.9x3.9mm, Pitch 1.27mm, Thermal Pad, IPC Medium Density)
footprint MRA08B_L (SOIC, 8-Leads, Body 4.9x3.9mm, Pitch 1.27mm, Thermal Pad, IPC High Density)
footprint MRA08B_M (SOIC, 8-Leads, Body 4.9x3.9mm, Pitch 1.27mm, Thermal Pad, IPC Low Density)
pins: 1 BOOT, 2 NC, 3 IADJ (in), 4 FB (in), 5 SS (in), 6 GND (power), 7 VIN (power), 8 SW (power), 9 DAP (power)

## LM22673MRE-ADJ/NOPB
designator U?
3A SIMPLE SWITCHER®, Step-Down Voltage Regulator with Adjustable Soft-Start and Current Limit, 8-pin PSOP, Pb-Free; PartNumber: LM22673MRE-ADJ/NOPB; Manufacturer: National Semiconductor; PackageTopMarking: NSXYTT*L22673*ADJ; PowerWise: N; High-Reliability: Y; DatasheetVersion: Nov-2008; PackageVersion: revB, Dec-2007; PackageReference: MRA08B; PackageDescription: Molded, PSOP .193 x .154 x .058in, 8 Lead, .050in Pitch, Large DAP; RoHS: Y; PinCount: 8; CompType: Switcher; Code_JEDEC: MS-012-AA; ComponentLink1Description: Manufacturer URL; ComponentLink1URL: http://www.national.com/; ComponentLink2Description: LM22673 Datasheet; ComponentLink2URL: http://www.national.com/ds/LM/LM22673.pdf; ComponentLink3Description: LM22673 Web Page; ComponentLink3URL: http://www.national.com/pf/LM/LM22673.html; ComponentLink4Description: MRA08B Package Page; ComponentLink4URL: http://www.national.com/packaging/folders/mra08b.html
footprint MRA08B_N (SOIC, 8-Leads, Body 4.9x3.9mm, Pitch 1.27mm, Thermal Pad, IPC Medium Density)
footprint MRA08B_L (SOIC, 8-Leads, Body 4.9x3.9mm, Pitch 1.27mm, Thermal Pad, IPC High Density)
footprint MRA08B_M (SOIC, 8-Leads, Body 4.9x3.9mm, Pitch 1.27mm, Thermal Pad, IPC Low Density)
pins: 1 BOOT, 2 NC, 3 IADJ (in), 4 FB (in), 5 SS (in), 6 GND (power), 7 VIN (power), 8 SW (power), 9 DAP (power)

## LM22673MRX-5.0/NOPB
designator U?
3A SIMPLE SWITCHER®, Step-Down Voltage Regulator with Adjustable Soft-Start and Current Limit, 8-pin PSOP, Pb-Free; PartNumber: LM22673MRX-5.0/NOPB; Manufacturer: National Semiconductor; PackageTopMarking: NSXYTT*L22673*5.0; PowerWise: N; High-Reliability: Y; DatasheetVersion: Nov-2008; PackageVersion: revB, Dec-2007; PackageReference: MRA08B; PackageDescription: Molded, PSOP .193 x .154 x .058in, 8 Lead, .050in Pitch, Large DAP; RoHS: Y; PinCount: 8; CompType: Switcher; Code_JEDEC: MS-012-AA; ComponentLink1Description: Manufacturer URL; ComponentLink1URL: http://www.national.com/; ComponentLink2Description: LM22673 Datasheet; ComponentLink2URL: http://www.national.com/ds/LM/LM22673.pdf; ComponentLink3Description: LM22673 Web Page; ComponentLink3URL: http://www.national.com/pf/LM/LM22673.html; ComponentLink4Description: MRA08B Package Page; ComponentLink4URL: http://www.national.com/packaging/folders/mra08b.html
footprint MRA08B_N (SOIC, 8-Leads, Body 4.9x3.9mm, Pitch 1.27mm, Thermal Pad, IPC Medium Density)
footprint MRA08B_L (SOIC, 8-Leads, Body 4.9x3.9mm, Pitch 1.27mm, Thermal Pad, IPC High Density)
footprint MRA08B_M (SOIC, 8-Leads, Body 4.9x3.9mm, Pitch 1.27mm, Thermal Pad, IPC Low Density)
pins: 1 BOOT, 2 NC, 3 IADJ (in), 4 FB (in), 5 SS (in), 6 GND (power), 7 VIN (power), 8 SW (power), 9 DAP (power)

## LM22673MRX-ADJ/NOPB
designator U?
3A SIMPLE SWITCHER®, Step-Down Voltage Regulator with Adjustable Soft-Start and Current Limit, 8-pin PSOP, Pb-Free; PartNumber: LM22673MRX-ADJ/NOPB; Manufacturer: National Semiconductor; PackageTopMarking: NSXYTT*L22673*ADJ; PowerWise: N; High-Reliability: Y; DatasheetVersion: Nov-2008; PackageVersion: revB, Dec-2007; PackageReference: MRA08B; PackageDescription: Molded, PSOP .193 x .154 x .058in, 8 Lead, .050in Pitch, Large DAP; RoHS: Y; PinCount: 8; CompType: Switcher; Code_JEDEC: MS-012-AA; ComponentLink1Description: Manufacturer URL; ComponentLink1URL: http://www.national.com/; ComponentLink2Description: LM22673 Datasheet; ComponentLink2URL: http://www.national.com/ds/LM/LM22673.pdf; ComponentLink3Description: LM22673 Web Page; ComponentLink3URL: http://www.national.com/pf/LM/LM22673.html; ComponentLink4Description: MRA08B Package Page; ComponentLink4URL: http://www.national.com/packaging/folders/mra08b.html
footprint MRA08B_N (SOIC, 8-Leads, Body 4.9x3.9mm, Pitch 1.27mm, Thermal Pad, IPC Medium Density)
footprint MRA08B_L (SOIC, 8-Leads, Body 4.9x3.9mm, Pitch 1.27mm, Thermal Pad, IPC High Density)
footprint MRA08B_M (SOIC, 8-Leads, Body 4.9x3.9mm, Pitch 1.27mm, Thermal Pad, IPC Low Density)
pins: 1 BOOT, 2 NC, 3 IADJ (in), 4 FB (in), 5 SS (in), 6 GND (power), 7 VIN (power), 8 SW (power), 9 DAP (power)

## LM22673TJ-5.0
designator U?
3A SIMPLE SWITCHER® Step-Down Voltage Regulator with Adjustable Soft-Start and Current Limit, 7-pin TO-263 Thin; PartNumber: LM22673TJ-5.0; Manufacturer: National Semiconductor; PackageTopMarking: NSUZXYTTE#*LM22673*TJ-5.0; PowerWise: N; High-Reliability: Y; DatasheetVersion: Nov-2008; PackageVersion: revC, Jan-2008; PackageReference: TJ7A; PackageDescription: Thin TO-263, Molded, 9.85 x 10.16 x 2mm Body, 7 Lead, 1.27mm Pitch, Surface Mount; RoHS: Y; PinCount: 7; CompType: Switcher; ComponentLink1Description: Manufacturer URL; ComponentLink1URL: http://www.national.com/; ComponentLink2Description: LM22673 Datasheet; ComponentLink2URL: http://www.national.com/ds/LM/LM22673.pdf; ComponentLink3Description: LM22673 Web Page; ComponentLink3URL: http://www.national.com/pf/LM/LM22673.html; ComponentLink4Description: TJ7A Package Page; ComponentLink4URL: http://www.national.com/packaging/folders/tj7a.html
footprint TJ7A_N (D2-PAK, 8-Leads, Body 9.9x10.2mm, Pitch 1.27mm, Lead Span 14mm, IPC Medium Density)
footprint TJ7A_L (D2-PAK, 8-Leads, Body 9.9x10.2mm, Pitch 1.27mm, Lead Span 14mm, IPC High Density)
footprint TJ7A_M (D2-PAK, 8-Leads, Body 9.9x10.2mm, Pitch 1.27mm, Lead Span 14mm, IPC Low Density)
pins: 1 SW (power), 2 VIN (power), 3 BOOT, 4 GND (power), 5 IADJ (in), 6 FB (in), 7 SS (in), 8 DAP (power)

## LM22673TJ-5.0/NOPB
designator U?
3A SIMPLE SWITCHER®, Step-Down Voltage Regulator with Adjustable Soft-Start and Current Limit, 7-pin TO-263 Thin, Pb-Free; PartNumber: LM22673TJ-5.0/NOPB; Manufacturer: National Semiconductor; PackageTopMarking: NSUZXYTTE#*LM22673*TJ-5.0; PowerWise: N; High-Reliability: Y; DatasheetVersion: Nov-2008; PackageVersion: revC, Jan-2008; PackageReference: TJ7A; PackageDescription: Thin TO-263, Molded, 9.85 x 10.16 x 2mm Body, 7 Lead, 1.27mm Pitch, Surface Mount; RoHS: Y; PinCount: 7; CompType: Switcher; ComponentLink1Description: Manufacturer URL; ComponentLink1URL: http://www.national.com/; ComponentLink2Description: LM22673 Datasheet; ComponentLink2URL: http://www.national.com/ds/LM/LM22673.pdf; ComponentLink3Description: LM22673 Web Page; ComponentLink3URL: http://www.national.com/pf/LM/LM22673.html; ComponentLink4Description: TJ7A Package Page; ComponentLink4URL: http://www.national.com/packaging/folders/tj7a.html
footprint TJ7A_N (D2-PAK, 8-Leads, Body 9.9x10.2mm, Pitch 1.27mm, Lead Span 14mm, IPC Medium Density)
footprint TJ7A_L (D2-PAK, 8-Leads, Body 9.9x10.2mm, Pitch 1.27mm, Lead Span 14mm, IPC High Density)
footprint TJ7A_M (D2-PAK, 8-Leads, Body 9.9x10.2mm, Pitch 1.27mm, Lead Span 14mm, IPC Low Density)
pins: 1 SW (power), 2 VIN (power), 3 BOOT, 4 GND (power), 5 IADJ (in), 6 FB (in), 7 SS (in), 8 DAP (power)

## LM22673TJ-ADJ
designator U?
3A SIMPLE SWITCHER® Step-Down Voltage Regulator with Adjustable Soft-Start and Current Limit, 7-pin TO-263 Thin; PartNumber: LM22673TJ-ADJ; Manufacturer: National Semiconductor; PackageTopMarking: NSUZXYTTE#*LM22673*TJ-ADJ; PowerWise: N; High-Reliability: Y; DatasheetVersion: Nov-2008; PackageVersion: revC, Jan-2008; PackageReference: TJ7A; PackageDescription: Thin TO-263, Molded, 9.85 x 10.16 x 2mm Body, 7 Lead, 1.27mm Pitch, Surface Mount; RoHS: Y; PinCount: 7; CompType: Switcher; ComponentLink1Description: Manufacturer URL; ComponentLink1URL: http://www.national.com/; ComponentLink2Description: LM22673 Datasheet; ComponentLink2URL: http://www.national.com/ds/LM/LM22673.pdf; ComponentLink3Description: LM22673 Web Page; ComponentLink3URL: http://www.national.com/pf/LM/LM22673.html; ComponentLink4Description: TJ7A Package Page; ComponentLink4URL: http://www.national.com/packaging/folders/tj7a.html
footprint TJ7A_N (D2-PAK, 8-Leads, Body 9.9x10.2mm, Pitch 1.27mm, Lead Span 14mm, IPC Medium Density)
footprint TJ7A_L (D2-PAK, 8-Leads, Body 9.9x10.2mm, Pitch 1.27mm, Lead Span 14mm, IPC High Density)
footprint TJ7A_M (D2-PAK, 8-Leads, Body 9.9x10.2mm, Pitch 1.27mm, Lead Span 14mm, IPC Low Density)
pins: 1 SW (power), 2 VIN (power), 3 BOOT, 4 GND (power), 5 IADJ (in), 6 FB (in), 7 SS (in), 8 DAP (power)

## LM22673TJ-ADJ/NOPB
designator U?
3A SIMPLE SWITCHER®, Step-Down Voltage Regulator with Adjustable Soft-Start and Current Limit, 7-pin TO-263 Thin, Pb-Free; PartNumber: LM22673TJ-ADJ/NOPB; Manufacturer: National Semiconductor; PackageTopMarking: NSUZXYTTE#*LM22673*TJ-ADJ; PowerWise: N; High-Reliability: Y; DatasheetVersion: Nov-2008; PackageVersion: revC, Jan-2008; PackageReference: TJ7A; PackageDescription: Thin TO-263, Molded, 9.85 x 10.16 x 2mm Body, 7 Lead, 1.27mm Pitch, Surface Mount; RoHS: Y; PinCount: 7; CompType: Switcher; ComponentLink1Description: Manufacturer URL; ComponentLink1URL: http://www.national.com/; ComponentLink2Description: LM22673 Datasheet; ComponentLink2URL: http://www.national.com/ds/LM/LM22673.pdf; ComponentLink3Description: LM22673 Web Page; ComponentLink3URL: http://www.national.com/pf/LM/LM22673.html; ComponentLink4Description: TJ7A Package Page; ComponentLink4URL: http://www.national.com/packaging/folders/tj7a.html
footprint TJ7A_N (D2-PAK, 8-Leads, Body 9.9x10.2mm, Pitch 1.27mm, Lead Span 14mm, IPC Medium Density)
footprint TJ7A_L (D2-PAK, 8-Leads, Body 9.9x10.2mm, Pitch 1.27mm, Lead Span 14mm, IPC High Density)
footprint TJ7A_M (D2-PAK, 8-Leads, Body 9.9x10.2mm, Pitch 1.27mm, Lead Span 14mm, IPC Low Density)
pins: 1 SW (power), 2 VIN (power), 3 BOOT, 4 GND (power), 5 IADJ (in), 6 FB (in), 7 SS (in), 8 DAP (power)

## LM22673TJE-5.0/NOPB
designator U?
3A SIMPLE SWITCHER®, Step-Down Voltage Regulator with Adjustable Soft-Start and Current Limit, 7-pin TO-263 Thin, Pb-Free; PartNumber: LM22673TJE-5.0/NOPB; Manufacturer: National Semiconductor; PackageTopMarking: NSUZXYTTE#*LM22673*TJ-5.0; PowerWise: N; High-Reliability: Y; DatasheetVersion: Nov-2008; PackageVersion: revC, Jan-2008; PackageReference: TJ7A; PackageDescription: Thin TO-263, Molded, 9.85 x 10.16 x 2mm Body, 7 Lead, 1.27mm Pitch, Surface Mount; RoHS: Y; PinCount: 7; CompType: Switcher; ComponentLink1Description: Manufacturer URL; ComponentLink1URL: http://www.national.com/; ComponentLink2Description: LM22673 Datasheet; ComponentLink2URL: http://www.national.com/ds/LM/LM22673.pdf; ComponentLink3Description: LM22673 Web Page; ComponentLink3URL: http://www.national.com/pf/LM/LM22673.html; ComponentLink4Description: TJ7A Package Page; ComponentLink4URL: http://www.national.com/packaging/folders/tj7a.html
footprint TJ7A_N (D2-PAK, 8-Leads, Body 9.9x10.2mm, Pitch 1.27mm, Lead Span 14mm, IPC Medium Density)
footprint TJ7A_L (D2-PAK, 8-Leads, Body 9.9x10.2mm, Pitch 1.27mm, Lead Span 14mm, IPC High Density)
footprint TJ7A_M (D2-PAK, 8-Leads, Body 9.9x10.2mm, Pitch 1.27mm, Lead Span 14mm, IPC Low Density)
pins: 1 SW (power), 2 VIN (power), 3 BOOT, 4 GND (power), 5 IADJ (in), 6 FB (in), 7 SS (in), 8 DAP (power)

## LM22673TJE-ADJ/NOPB
designator U?
3A SIMPLE SWITCHER®, Step-Down Voltage Regulator with Adjustable Soft-Start and Current Limit, 7-pin TO-263 Thin, Pb-Free; PartNumber: LM22673TJE-ADJ/NOPB; Manufacturer: National Semiconductor; PackageTopMarking: NSUZXYTTE#*LM22673*TJ-ADJ; PowerWise: N; High-Reliability: Y; DatasheetVersion: Nov-2008; PackageVersion: revC, Jan-2008; PackageReference: TJ7A; PackageDescription: Thin TO-263, Molded, 9.85 x 10.16 x 2mm Body, 7 Lead, 1.27mm Pitch, Surface Mount; RoHS: Y; PinCount: 7; CompType: Switcher; ComponentLink1Description: Manufacturer URL; ComponentLink1URL: http://www.national.com/; ComponentLink2Description: LM22673 Datasheet; ComponentLink2URL: http://www.national.com/ds/LM/LM22673.pdf; ComponentLink3Description: LM22673 Web Page; ComponentLink3URL: http://www.national.com/pf/LM/LM22673.html; ComponentLink4Description: TJ7A Package Page; ComponentLink4URL: http://www.national.com/packaging/folders/tj7a.html
footprint TJ7A_N (D2-PAK, 8-Leads, Body 9.9x10.2mm, Pitch 1.27mm, Lead Span 14mm, IPC Medium Density)
footprint TJ7A_L (D2-PAK, 8-Leads, Body 9.9x10.2mm, Pitch 1.27mm, Lead Span 14mm, IPC High Density)
footprint TJ7A_M (D2-PAK, 8-Leads, Body 9.9x10.2mm, Pitch 1.27mm, Lead Span 14mm, IPC Low Density)
pins: 1 SW (power), 2 VIN (power), 3 BOOT, 4 GND (power), 5 IADJ (in), 6 FB (in), 7 SS (in), 8 DAP (power)

## LM22674MR-5.0
designator U?
500mA SIMPLE SWITCHER® Step-Down Voltage Regulator with Precision Enable, 8-pin PSOP; PartNumber: LM22674MR-5.0; Manufacturer: National Semiconductor; PackageTopMarking: NSXYTT*L22674*5.0; PowerWise: N; High-Reliability: Y; DatasheetVersion: Dec-2010; PackageVersion: revB, Dec-2007; PackageReference: MRA08B; PackageDescription: Molded, PSOP .193 x .154 x .058in, 8 Lead, .050in Pitch, Large DAP; RoHS: Y; PinCount: 8; CompType: Switcher; Code_JEDEC: MS-012-AA; ComponentLink1Description: Manufacturer URL; ComponentLink1URL: http://www.national.com/; ComponentLink2Description: LM22674 Datasheet; ComponentLink2URL: http://www.national.com/ds/LM/LM22674.pdf; ComponentLink3Description: LM22674 Web Page; ComponentLink3URL: http://www.national.com/pf/LM/LM22674.html; ComponentLink4Description: MRA08B Package Page; ComponentLink4URL: http://www.national.com/packaging/folders/mra08b.html
footprint MRA08B_N (SOIC, 8-Leads, Body 4.9x3.9mm, Pitch 1.27mm, Thermal Pad, IPC Medium Density)
footprint MRA08B_L (SOIC, 8-Leads, Body 4.9x3.9mm, Pitch 1.27mm, Thermal Pad, IPC High Density)
footprint MRA08B_M (SOIC, 8-Leads, Body 4.9x3.9mm, Pitch 1.27mm, Thermal Pad, IPC Low Density)
pins: 1 BOOT, 2 NC, 3 NC, 4 FB (in), 5 EN (in), 6 GND (power), 7 VIN (power), 8 SW (power), 9 DAP (power)

## LM22674MR-5.0/NOPB
designator U?
500 mA SIMPLE SWITCHER®, Step-Down Voltage Regulator with Precision Enable, 8-pin PSOP, Pb-Free; PartNumber: LM22674MR-5.0/NOPB; Manufacturer: National Semiconductor; PackageTopMarking: NSXYTT*L22674*5.0; PowerWise: N; High-Reliability: Y; DatasheetVersion: Dec-2010; PackageVersion: revB, Dec-2007; PackageReference: MRA08B; PackageDescription: Molded, PSOP .193 x .154 x .058in, 8 Lead, .050in Pitch, Large DAP; RoHS: Y; PinCount: 8; CompType: Switcher; Code_JEDEC: MS-012-AA; ComponentLink1Description: Manufacturer URL; ComponentLink1URL: http://www.national.com/; ComponentLink2Description: LM22674 Datasheet; ComponentLink2URL: http://www.national.com/ds/LM/LM22674.pdf; ComponentLink3Description: LM22674 Web Page; ComponentLink3URL: http://www.national.com/pf/LM/LM22674.html; ComponentLink4Description: MRA08B Package Page; ComponentLink4URL: http://www.national.com/packaging/folders/mra08b.html
footprint MRA08B_N (SOIC, 8-Leads, Body 4.9x3.9mm, Pitch 1.27mm, Thermal Pad, IPC Medium Density)
footprint MRA08B_L (SOIC, 8-Leads, Body 4.9x3.9mm, Pitch 1.27mm, Thermal Pad, IPC High Density)
footprint MRA08B_M (SOIC, 8-Leads, Body 4.9x3.9mm, Pitch 1.27mm, Thermal Pad, IPC Low Density)
pins: 1 BOOT, 2 NC, 3 NC, 4 FB (in), 5 EN (in), 6 GND (power), 7 VIN (power), 8 SW (power), 9 DAP (power)

## LM22674MR-ADJ
designator U?
500mA SIMPLE SWITCHER® Step-Down Voltage Regulator with Precision Enable, 8-pin PSOP; PartNumber: LM22674MR-ADJ; Manufacturer: National Semiconductor; PackageTopMarking: NSXYTT*L22674*ADJ; PowerWise: N; High-Reliability: Y; DatasheetVersion: Dec-2010; PackageVersion: revB, Dec-2007; PackageReference: MRA08B; PackageDescription: Molded, PSOP .193 x .154 x .058in, 8 Lead, .050in Pitch, Large DAP; RoHS: Y; PinCount: 8; CompType: Switcher; Code_JEDEC: MS-012-AA; ComponentLink1Description: Manufacturer URL; ComponentLink1URL: http://www.national.com/; ComponentLink2Description: LM22674 Datasheet; ComponentLink2URL: http://www.national.com/ds/LM/LM22674.pdf; ComponentLink3Description: LM22674 Web Page; ComponentLink3URL: http://www.national.com/pf/LM/LM22674.html; ComponentLink4Description: MRA08B Package Page; ComponentLink4URL: http://www.national.com/packaging/folders/mra08b.html
footprint MRA08B_N (SOIC, 8-Leads, Body 4.9x3.9mm, Pitch 1.27mm, Thermal Pad, IPC Medium Density)
footprint MRA08B_L (SOIC, 8-Leads, Body 4.9x3.9mm, Pitch 1.27mm, Thermal Pad, IPC High Density)
footprint MRA08B_M (SOIC, 8-Leads, Body 4.9x3.9mm, Pitch 1.27mm, Thermal Pad, IPC Low Density)
pins: 1 BOOT, 2 NC, 3 NC, 4 FB (in), 5 EN (in), 6 GND (power), 7 VIN (power), 8 SW (power), 9 DAP (power)

## LM22674MR-ADJ/NOPB
designator U?
500 mA SIMPLE SWITCHER®, Step-Down Voltage Regulator with Precision Enable, 8-pin PSOP, Pb-Free; PartNumber: LM22674MR-ADJ/NOPB; Manufacturer: National Semiconductor; PackageTopMarking: NSXYTT*L22674*ADJ; PowerWise: N; High-Reliability: Y; DatasheetVersion: Dec-2010; PackageVersion: revB, Dec-2007; PackageReference: MRA08B; PackageDescription: Molded, PSOP .193 x .154 x .058in, 8 Lead, .050in Pitch, Large DAP; RoHS: Y; PinCount: 8; CompType: Switcher; Code_JEDEC: MS-012-AA; ComponentLink1Description: Manufacturer URL; ComponentLink1URL: http://www.national.com/; ComponentLink2Description: LM22674 Datasheet; ComponentLink2URL: http://www.national.com/ds/LM/LM22674.pdf; ComponentLink3Description: LM22674 Web Page; ComponentLink3URL: http://www.national.com/pf/LM/LM22674.html; ComponentLink4Description: MRA08B Package Page; ComponentLink4URL: http://www.national.com/packaging/folders/mra08b.html
footprint MRA08B_N (SOIC, 8-Leads, Body 4.9x3.9mm, Pitch 1.27mm, Thermal Pad, IPC Medium Density)
footprint MRA08B_L (SOIC, 8-Leads, Body 4.9x3.9mm, Pitch 1.27mm, Thermal Pad, IPC High Density)
footprint MRA08B_M (SOIC, 8-Leads, Body 4.9x3.9mm, Pitch 1.27mm, Thermal Pad, IPC Low Density)
pins: 1 BOOT, 2 NC, 3 NC, 4 FB (in), 5 EN (in), 6 GND (power), 7 VIN (power), 8 SW (power), 9 DAP (power)

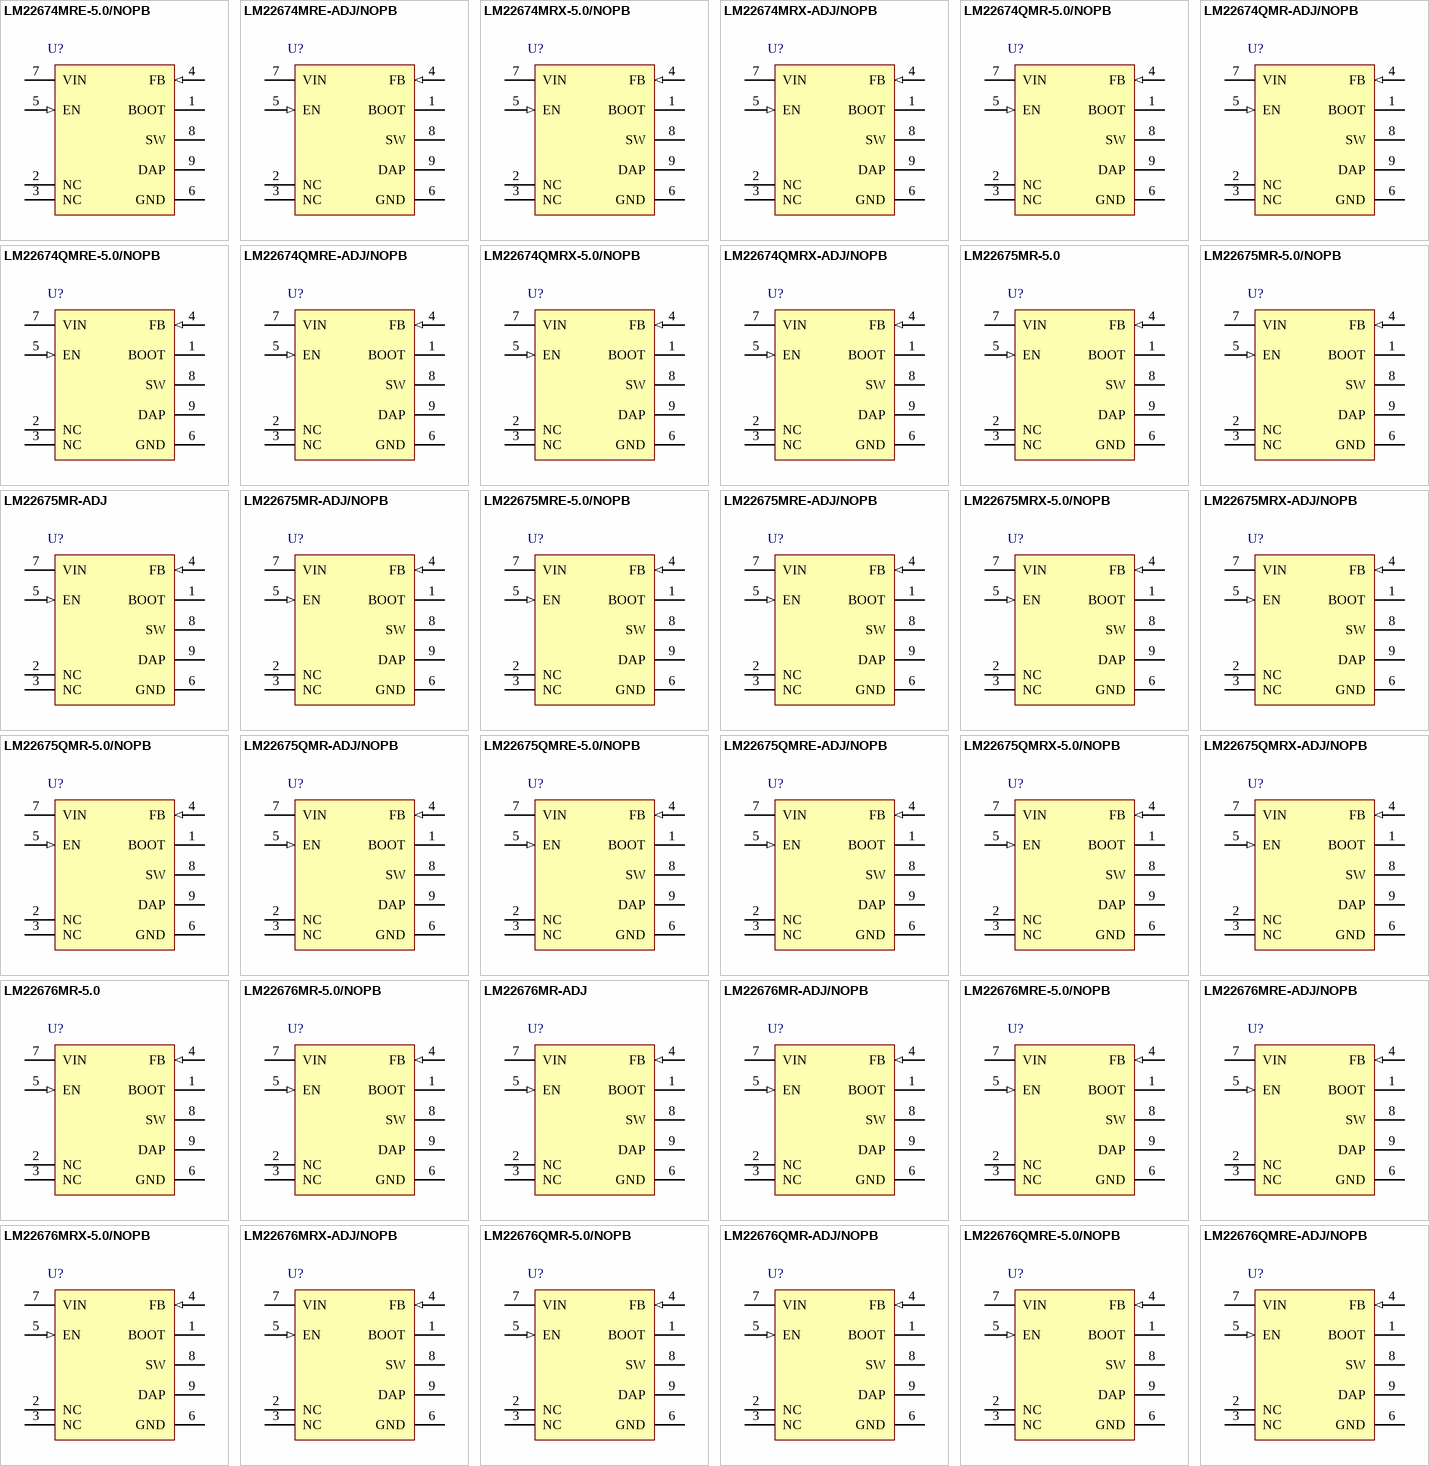
[diagram p53: symbols LM22674MRE-5.0/NOPB to LM22676QMRE-ADJ/NOPB]

## LM22674MRE-5.0/NOPB
designator U?
500 mA SIMPLE SWITCHER®, Step-Down Voltage Regulator with Precision Enable, 8-pin PSOP, Pb-Free; PartNumber: LM22674MRE-5.0/NOPB; Manufacturer: National Semiconductor; PackageTopMarking: NSXYTT*L22674*5.0; PowerWise: N; High-Reliability: Y; DatasheetVersion: Dec-2010; PackageVersion: revB, Dec-2007; PackageReference: MRA08B; PackageDescription: Molded, PSOP .193 x .154 x .058in, 8 Lead, .050in Pitch, Large DAP; RoHS: Y; PinCount: 8; CompType: Switcher; Code_JEDEC: MS-012-AA; ComponentLink1Description: Manufacturer URL; ComponentLink1URL: http://www.national.com/; ComponentLink2Description: LM22674 Datasheet; ComponentLink2URL: http://www.national.com/ds/LM/LM22674.pdf; ComponentLink3Description: LM22674 Web Page; ComponentLink3URL: http://www.national.com/pf/LM/LM22674.html; ComponentLink4Description: MRA08B Package Page; ComponentLink4URL: http://www.national.com/packaging/folders/mra08b.html
footprint MRA08B_N (SOIC, 8-Leads, Body 4.9x3.9mm, Pitch 1.27mm, Thermal Pad, IPC Medium Density)
footprint MRA08B_L (SOIC, 8-Leads, Body 4.9x3.9mm, Pitch 1.27mm, Thermal Pad, IPC High Density)
footprint MRA08B_M (SOIC, 8-Leads, Body 4.9x3.9mm, Pitch 1.27mm, Thermal Pad, IPC Low Density)
pins: 1 BOOT, 2 NC, 3 NC, 4 FB (in), 5 EN (in), 6 GND (power), 7 VIN (power), 8 SW (power), 9 DAP (power)